# EAGLE library part 1X8 (library Con-2-12-RM3,5)
1x8
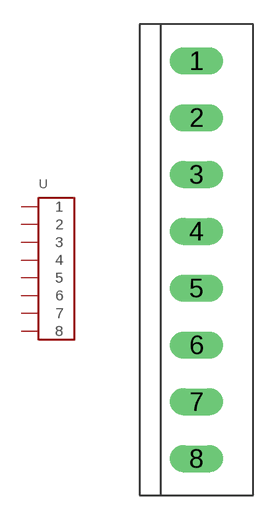
[diagram p1: symbol with the pads of 1X8; footprint 1X8]

Designator prefix -

## 1X8  [1X8]
1  1
2  2
3  3
4  4
5  5
6  6
7  7
8  8

## Footprint 1X8 (pad centres in mm)
1x8
drill 1.1 long: 1 0,12.25; 2 0,8.75; 3 0,5.25; 4 0,1.75; 5 0,-1.75; 6 0,-5.25; 7 0,-8.75; 8 0,-12.25